# Altium footprint library 6U4dsp.PcbLib: 37 footprints (part 1 of 3)
Each footprint in its own frame and in the unit in brackets; x right, y up, seen from the top. Pads: shape width x height; smd on the part's side, far side on the other; paste and mask are expansions set on the pad; w line width, h text height; cw(c..) or ccw(c..) is an arc to the next point about the centre after c.
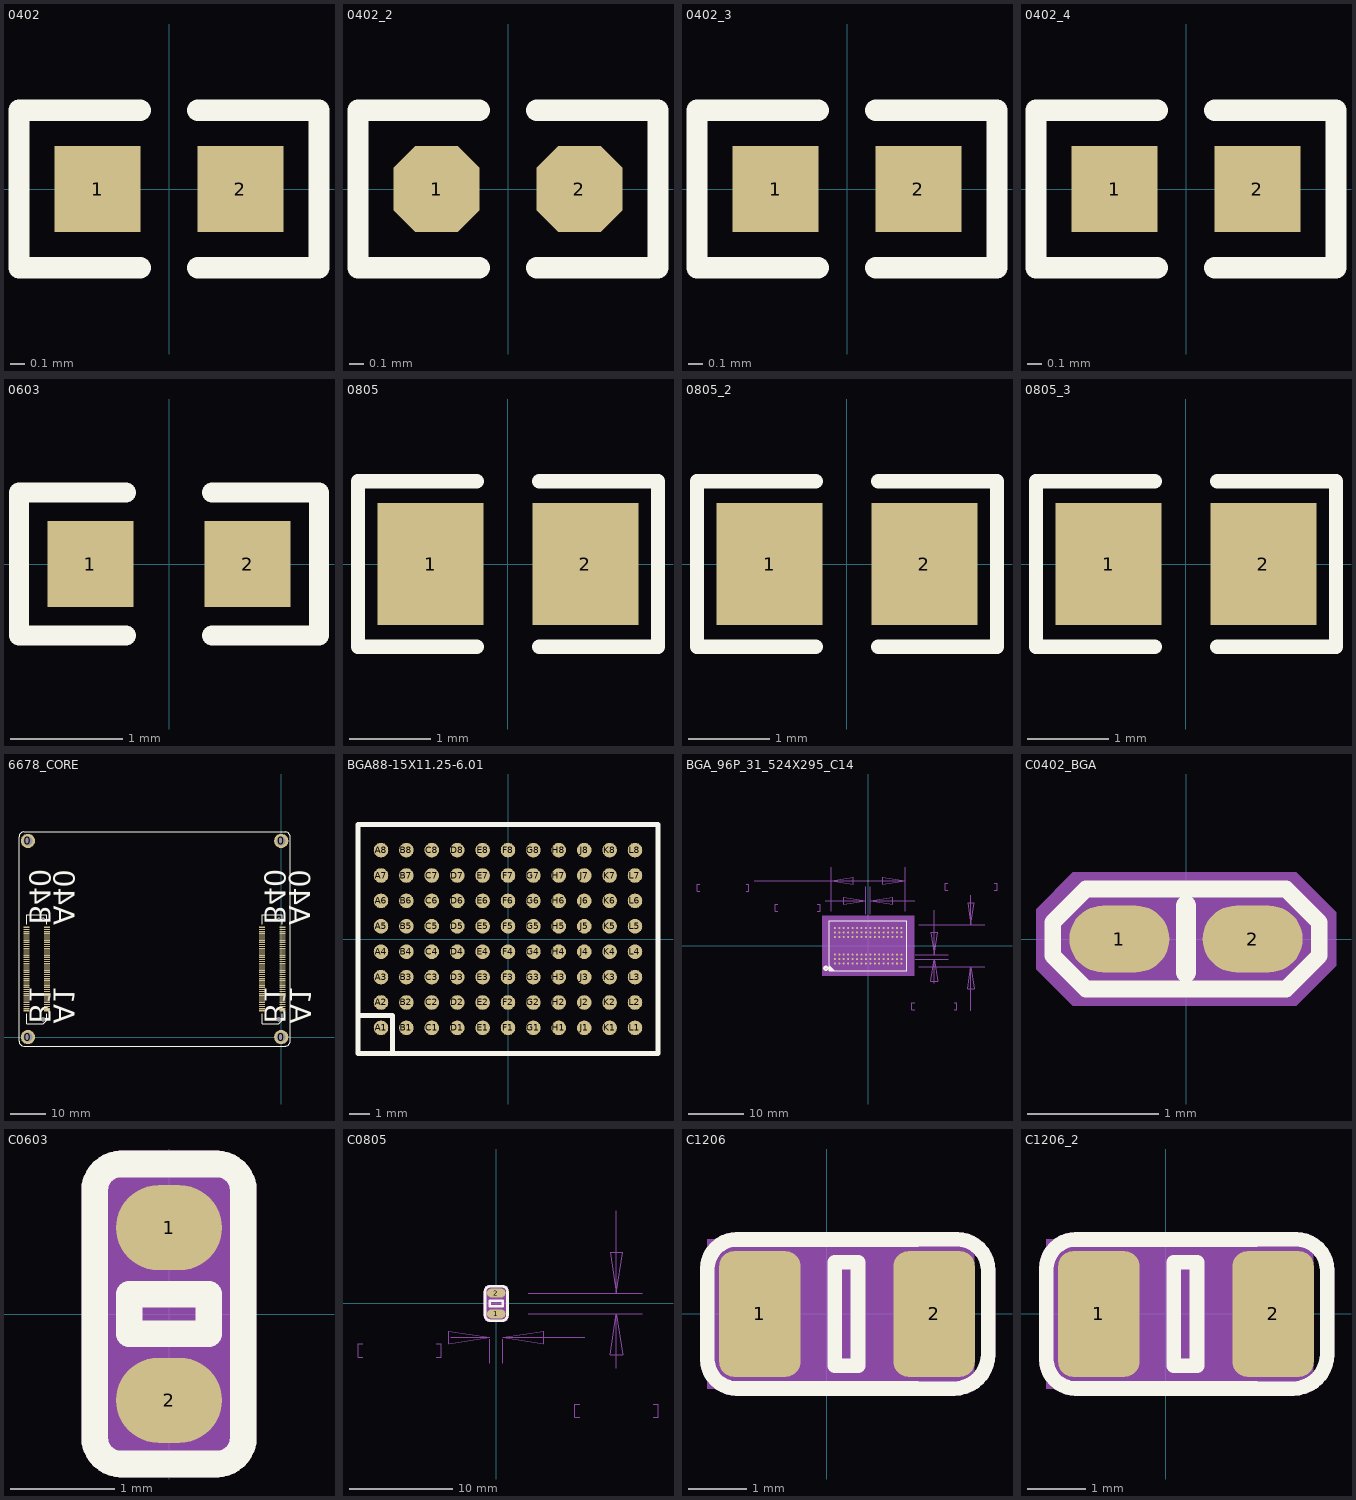
[diagram p0: the footprints below, top view; thin cyan lines are the x and y axes]

## 0402 [mm]
pads (2):
  rect 0.6x0.6 smd: 1(-0.5,0) 2(0.5,0)
Top Overlay:
  lines w0.15: -0.2,-0.55 -1.05,-0.55 -1.05,0.55 -0.2,0.55 ; 0.2,-0.55 1.05,-0.55 1.05,0.55 0.2,0.55

## 0402_2 [mm]
pads (2):
  oct 0.6x0.6 smd: 1(-0.5,0) 2(0.5,0)
Top Overlay:
  lines w0.15: -0.2,-0.55 -1.05,-0.55 -1.05,0.55 -0.2,0.55 ; 0.2,-0.55 1.05,-0.55 1.05,0.55 0.2,0.55

## 0402_3 [mm]
pads (2):
  rect 0.6x0.6 smd: 1(-0.5,0) 2(0.5,0)
Top Overlay:
  lines w0.15: -0.2,-0.55 -1.05,-0.55 -1.05,0.55 -0.2,0.55 ; 0.2,-0.55 1.05,-0.55 1.05,0.55 0.2,0.55

## 0402_4 [mm]
pads (2):
  rect 0.6x0.6 smd: 1(-0.5,0) 2(0.5,0)
Top Overlay:
  lines w0.15: -0.2,-0.55 -1.05,-0.55 -1.05,0.55 -0.2,0.55 ; 0.2,-0.55 1.05,-0.55 1.05,0.55 0.2,0.55

## 0603 [mil] "Chip Inductor, Body 0.6x0.3mm, IPC High Density"
height 21.65
pads (2):
  rect 30x30 smd: 1(-27.5,0) 2(27.5,0)
Top Overlay:
  lines w7: -15,-25 -52.5,-25 -52.5,25 -15,25 ; 15,-25 52.5,-25 52.5,25 15,25

## 0805 [mm]
pads (2):
  rect 1.3x1.5 smd: 1(-0.95,0) 2(0.95,0)
Top Overlay:
  lines w0.178: -0.381,-1.019 -1.841,-1.019 -1.841,1.019 -0.381,1.019 ; 0.381,-1.019 1.842,-1.019 1.842,1.019 0.381,1.019

## 0805_2 [mm]
pads (2):
  rect 1.3x1.5 smd: 1(-0.95,0) 2(0.95,0)
Top Overlay:
  lines w0.178: -0.381,-1.019 -1.841,-1.019 -1.841,1.019 -0.381,1.019 ; 0.381,-1.019 1.842,-1.019 1.842,1.019 0.381,1.019

## 0805_3 [mm]
pads (2):
  rect 1.3x1.5 smd: 1(-0.95,0) 2(0.95,0)
Top Overlay:
  lines w0.178: -0.381,-1.019 -1.841,-1.019 -1.841,1.019 -0.381,1.019 ; 0.381,-1.019 1.842,-1.019 1.842,1.019 0.381,1.019

## 6678_CORE [mm]
pads (168):
  round 4 hole 2.5: 0(-71,55) 0(-71,0) 0(0,0) 0(0,55)
  rect 1.7x0.35 smd: A1_1(-65.65,7.365) A1_2(-65.65,7.965) A1_3(-65.65,8.565) A1_4(-65.65,9.165) A1_5(-65.65,9.765) A1_6(-65.65,10.365) A1_7(-65.65,10.965) A1_8(-65.65,11.565) A1_9(-65.65,12.165) A1_10(-65.65,12.765) A1_11(-65.65,13.365) A1_12(-65.65,13.965) A1_13(-65.65,14.565) A1_14(-65.65,15.165) A1_15(-65.65,15.765) A1_16(-65.65,16.365) A1_17(-65.65,16.965) A1_18(-65.65,17.565) A1_19(-65.65,18.165) A1_20(-65.65,18.765) A1_21(-65.65,19.365) A1_22(-65.65,19.965) A1_23(-65.65,20.565) A1_24(-65.65,21.165) A1_25(-65.65,21.765) A1_26(-65.65,22.365) A1_27(-65.65,22.965) A1_28(-65.65,23.565) A1_29(-65.65,24.165) A1_30(-65.65,24.765) A1_31(-65.65,25.365) A1_32(-65.65,25.965) A1_33(-65.65,26.565) A1_34(-65.65,27.165) A1_35(-65.65,27.765) A1_36(-65.65,28.365) A1_37(-65.65,28.965) A1_38(-65.65,29.565) A1_39(-65.65,30.165) A1_40(-65.65,30.765) A2_1(0.35,7.365) A2_2(0.35,7.965) A2_3(0.35,8.565) A2_4(0.35,9.165) A2_5(0.35,9.765) A2_6(0.35,10.365) A2_7(0.35,10.965) A2_8(0.35,11.565) A2_9(0.35,12.165) A2_10(0.35,12.765) A2_11(0.35,13.365) A2_12(0.35,13.965) A2_13(0.35,14.565) A2_14(0.35,15.165) A2_15(0.35,15.765) A2_16(0.35,16.365) A2_17(0.35,16.965) A2_18(0.35,17.565) A2_19(0.35,18.165) A2_20(0.35,18.765) A2_21(0.35,19.365) A2_22(0.35,19.965) A2_23(0.35,20.565) A2_24(0.35,21.165) A2_25(0.35,21.765) A2_26(0.35,22.365) A2_27(0.35,22.965) A2_28(0.35,23.565) A2_29(0.35,24.165) A2_30(0.35,24.765) A2_31(0.35,25.365) A2_32(0.35,25.965) A2_33(0.35,26.565) A2_34(0.35,27.165) A2_35(0.35,27.765) A2_36(0.35,28.365) A2_37(0.35,28.965) A2_38(0.35,29.565) A2_39(0.35,30.165) A2_40(0.35,30.765) B1_1(-71.35,7.365) B1_2(-71.35,7.965) B1_3(-71.35,8.565) B1_4(-71.35,9.165) B1_5(-71.35,9.765) B1_6(-71.35,10.365) B1_7(-71.35,10.965) B1_8(-71.35,11.565) B1_9(-71.35,12.165) B1_10(-71.35,12.765) B1_11(-71.35,13.365) B1_12(-71.35,13.965) B1_13(-71.35,14.565) B1_14(-71.35,15.165) B1_15(-71.35,15.765) B1_16(-71.35,16.365) B1_17(-71.35,16.965) B1_18(-71.35,17.565) B1_19(-71.35,18.165) B1_20(-71.35,18.765) B1_21(-71.35,19.365) B1_22(-71.35,19.965) B1_23(-71.35,20.565) B1_24(-71.35,21.165) B1_25(-71.35,21.765) B1_26(-71.35,22.365) B1_27(-71.35,22.965) B1_28(-71.35,23.565) B1_29(-71.35,24.165) B1_30(-71.35,24.765) B1_31(-71.35,25.365) B1_32(-71.35,25.965) B1_33(-71.35,26.565) B1_34(-71.35,27.165) B1_35(-71.35,27.765) B1_36(-71.35,28.365) B1_37(-71.35,28.965) B1_38(-71.35,29.565) B1_39(-71.35,30.165) B1_40(-71.35,30.765) B2_1(-5.35,7.365) B2_2(-5.35,7.965) B2_3(-5.35,8.565) B2_4(-5.35,9.165) B2_5(-5.35,9.765) B2_6(-5.35,10.365) B2_7(-5.35,10.965) B2_8(-5.35,11.565) B2_9(-5.35,12.165) B2_10(-5.35,12.765) B2_11(-5.35,13.365) B2_12(-5.35,13.965) B2_13(-5.35,14.565) B2_14(-5.35,15.165) B2_15(-5.35,15.765) B2_16(-5.35,16.365) B2_17(-5.35,16.965) B2_18(-5.35,17.565) B2_19(-5.35,18.165) B2_20(-5.35,18.765) B2_21(-5.35,19.365) B2_22(-5.35,19.965) B2_23(-5.35,20.565) B2_24(-5.35,21.165) B2_25(-5.35,21.765) B2_26(-5.35,22.365) B2_27(-5.35,22.965) B2_28(-5.35,23.565) B2_29(-5.35,24.165) B2_30(-5.35,24.765) B2_31(-5.35,25.365) B2_32(-5.35,25.965) B2_33(-5.35,26.565) B2_34(-5.35,27.165) B2_35(-5.35,27.765) B2_36(-5.35,28.365) B2_37(-5.35,28.965) B2_38(-5.35,29.565) B2_39(-5.35,30.165) B2_40(-5.35,30.765)
  round 1.1 hole 1.1: ZH-C1(-66.7,4.965) ZH-C1(-0.7,4.965)
  round 0.7 hole 0.7: ZH-C2(-66.7,33.165) ZH-C2(-0.7,33.165)
Top Overlay:
  lines w0.254: -71.3,6.565 -71.3,3.765 -66.7,3.765 -65.7,4.765 -65.7,6.565 ; -71.3,31.565 -71.3,34.365 -65.7,34.365 -65.7,31.565 ; -5.3,6.565 -5.3,3.765 -0.7,3.765 0.3,4.765 0.3,6.565 ; -5.3,31.565 -5.3,34.365 0.3,34.365 0.3,31.565 ; -73.5,-1.23 ccw(c-72.23,-1.23) -72.23,-2.5 1.23,-2.5 ccw(c1.23,-1.23) 2.5,-1.23 2.5,56.23 ccw(c1.23,56.23) 1.23,57.5 -72.23,57.5 ccw(c-72.23,56.23) -73.5,56.23 -73.5,55.521 -73.5,-1.23
  text "A1" at 0.6,3.765 h10
  text "B1" at -6.513,3.774 h10
  text "A40" at -65.682,31.393 h10
  text "B40" at -72.513,31.513 h10
  text "B1" at -72.513,3.774 h10
  text "A1" at -65.7,3.765 h10
  text "B40" at -6.513,31.513 h10
  text "A40" at 0.319,31.393 h10

## BGA88-15X11.25-6.01 [mm]
pads (88):
  round 0.73 smd: A1(-6.35,-4.445) A2(-6.35,-3.175) A3(-6.35,-1.905) A4(-6.35,-0.635) A5(-6.35,0.635) A6(-6.35,1.905) A7(-6.35,3.175) A8(-6.35,4.445) B1(-5.08,-4.445) B2(-5.08,-3.175) B3(-5.08,-1.905) B4(-5.08,-0.635) B5(-5.08,0.635) B6(-5.08,1.905) B7(-5.08,3.175) B8(-5.08,4.445) C1(-3.81,-4.445) C2(-3.81,-3.175) C3(-3.81,-1.905) C4(-3.81,-0.635) C5(-3.81,0.635) C6(-3.81,1.905) C7(-3.81,3.175) C8(-3.81,4.445) D1(-2.54,-4.445) D2(-2.54,-3.175) D3(-2.54,-1.905) D4(-2.54,-0.635) D5(-2.54,0.635) D6(-2.54,1.905) D7(-2.54,3.175) D8(-2.54,4.445) E1(-1.27,-4.445) E2(-1.27,-3.175) E3(-1.27,-1.905) E4(-1.27,-0.635) E5(-1.27,0.635) E6(-1.27,1.905) E7(-1.27,3.175) E8(-1.27,4.445) F1(0,-4.445) F2(0,-3.175) F3(0,-1.905) F4(0,-0.635) F5(0,0.635) F6(0,1.905) F7(0,3.175) F8(0,4.445) G1(1.27,-4.445) G2(1.27,-3.175) G3(1.27,-1.905) G4(1.27,-0.635) G5(1.27,0.635) G6(1.27,1.905) G7(1.27,3.175) G8(1.27,4.445) H1(2.54,-4.445) H2(2.54,-3.175) H3(2.54,-1.905) H4(2.54,-0.635) H5(2.54,0.635) H6(2.54,1.905) H7(2.54,3.175) H8(2.54,4.445) J1(3.81,-4.445) J2(3.81,-3.175) J3(3.81,-1.905) J4(3.81,-0.635) J5(3.81,0.635) J6(3.81,1.905) J7(3.81,3.175) J8(3.81,4.445) K1(5.08,-4.445) K2(5.08,-3.175) K3(5.08,-1.905) K4(5.08,-0.635) K5(5.08,0.635) K6(5.08,1.905) K7(5.08,3.175) K8(5.08,4.445) L1(6.35,-4.445) L2(6.35,-3.175) L3(6.35,-1.905) L4(6.35,-0.635) L5(6.35,0.635) L6(6.35,1.905) L7(6.35,3.175) L8(6.35,4.445)
Top Overlay:
  lines w0.254: -7.493,-3.835 -5.765,-3.835 -5.765,-5.715 ; -7.5,-5.715 -7.5,5.715 7.5,5.715 7.5,-5.715 -7.5,-5.715

## BGA_96P_31_524X295_C14 [mil] "BGA_96P_31_524X295_C14"
pads (96):
  round 14 smd: A1(-236.22,-125.98) A2(-236.22,-94.49) A3(-236.22,-62.99) A7(-236.22,62.99) A8(-236.22,94.49) A9(-236.22,125.98) B1(-204.72,-125.98) B2(-204.72,-94.49) B3(-204.72,-62.99) B7(-204.72,62.99) B8(-204.72,94.49) B9(-204.72,125.98) C1(-173.23,-125.98) C2(-173.23,-94.49) C3(-173.23,-62.99) C7(-173.23,62.99) C8(-173.23,94.49) C9(-173.23,125.98) D1(-141.73,-125.98) D2(-141.73,-94.49) D3(-141.73,-62.99) D7(-141.73,62.99) D8(-141.73,94.49) D9(-141.73,125.98) E1(-110.24,-125.98) E2(-110.24,-94.49) E3(-110.24,-62.99) E7(-110.24,62.99) E8(-110.24,94.49) E9(-110.24,125.98) F1(-78.74,-125.98) F2(-78.74,-94.49) F3(-78.74,-62.99) F7(-78.74,62.99) F8(-78.74,94.49) F9(-78.74,125.98) G1(-47.24,-125.98) G2(-47.24,-94.49) G3(-47.24,-62.99) G7(-47.24,62.99) G8(-47.24,94.49) G9(-47.24,125.98) H1(-15.75,-125.98) H2(-15.75,-94.49) H3(-15.75,-62.99) H7(-15.75,62.99) H8(-15.75,94.49) H9(-15.75,125.98) J1(15.75,-125.98) J2(15.75,-94.49) J3(15.75,-62.99) J7(15.75,62.99) J8(15.75,94.49) J9(15.75,125.98) K1(47.24,-125.98) K2(47.24,-94.49) K3(47.24,-62.99) K7(47.24,62.99) K8(47.24,94.49) K9(47.24,125.98) L1(78.74,-125.98) L2(78.74,-94.49) L3(78.74,-62.99) L7(78.74,62.99) L8(78.74,94.49) L9(78.74,125.98) M1(110.24,-125.98) M2(110.24,-94.49) M3(110.24,-62.99) M7(110.24,62.99) M8(110.24,94.49) M9(110.24,125.98) N1(141.73,-125.98) N2(141.73,-94.49) N3(141.73,-62.99) N7(141.73,62.99) N8(141.73,94.49) N9(141.73,125.98) P1(173.23,-125.98) P2(173.23,-94.49) P3(173.23,-62.99) P7(173.23,62.99) P8(173.23,94.49) P9(173.23,125.98) R1(204.72,-125.98) R2(204.72,-94.49) R3(204.72,-62.99) R7(204.72,62.99) R8(204.72,94.49) R9(204.72,125.98) T1(236.22,-125.98) T2(236.22,-94.49) T3(236.22,-62.99) T7(236.22,62.99) T8(236.22,94.49) T9(236.22,125.98)
Top Overlay:
  circle w15: c-300,-160 r11.18
  lines w3.94: -275.98,-142.52 -275.2,-142.52 -241.73,-175.98 -248.82,-175.98 -275.2,-149.61 -275.2,-156.3 -255.12,-176.38 -261.42,-176.38 -274.41,-163.39 -274.41,-170.08 -268.11,-176.38 ; -275.59,-177.16 -275.59,177.16 275.59,177.16 275.59,-177.16 -275.59,-177.16
Mechanical 5:
  circle w15: c-300,-160 r11.18
  lines w3.94: -275.98,-142.52 -275.2,-142.52 -241.73,-175.98 -248.82,-175.98 -275.2,-149.61 -275.2,-156.3 -255.12,-176.38 -261.42,-176.38 -274.41,-163.39 -274.41,-170.08 -268.11,-176.38 ; -275.59,-177.16 -275.59,177.16 275.59,177.16 275.59,-177.16 -275.59,-177.16
  text "U4" at -362.51,27.5 h25
Mechanical 13:
  lines w1: -1195.67,385.04 -1214.57,385.04 -1214.57,435.04 -1195.67,435.04 ; -864.57,385.04 -845.67,385.04 -845.67,435.04 -864.57,435.04 ; -807.87,459.84 -261.81,459.84 ; -640.16,244.88 -659.06,244.88 -659.06,294.88 -640.16,294.88 ; -359.84,244.88 -340.94,244.88 -340.94,294.88 -359.84,294.88 ; -303.54,320.08 -15.75,320.08 ; -261.81,246.06 -261.81,558.27 ; -15.75,224.41 -15.75,418.5 ; 15.75,224.41 15.75,418.5 ; 261.81,246.06 261.81,558.27 ; 329.92,-455.12 311.02,-455.12 311.02,-405.12 329.92,-405.12 ; 330.71,320.08 15.75,320.08 ; 334.65,-94.49 568.5,-94.49 ; 334.65,-62.99 568.5,-62.99 ; 360.24,-147.64 828.35,-147.64 ; 360.24,147.64 828.35,147.64 ; 470.08,-267.32 470.08,-94.49 ; 470.08,251.97 470.08,-62.99 ; 564.57,394.88 545.67,394.88 545.67,444.88 564.57,444.88 ; 609.84,-455.12 629.13,-455.12 629.13,-405.12 609.84,-405.12 ; 729.92,-462.6 729.92,-147.64 ; 729.92,357.48 729.92,147.64 ; 895.67,394.88 914.57,394.88 914.57,444.88 895.67,444.88 ; -261.81,459.84 261.81,459.84 ; -261.81,459.84 -104.33,435.43 -104.33,484.65 -261.81,459.84 ; -15.75,320.08 -173.23,344.49 -173.23,295.28 -15.75,320.08 ; 15.75,320.08 173.23,295.28 173.23,344.49 15.75,320.08 ; 261.81,459.84 104.33,484.65 104.33,435.43 261.81,459.84 ; 470.08,-94.49 445.28,-251.97 494.49,-251.97 470.08,-94.49 ; 470.08,-62.99 494.49,94.49 445.28,94.49 470.08,-62.99 ; 729.92,-147.64 705.51,-305.12 754.72,-305.12 729.92,-147.64 ; 729.92,147.64 754.72,305.12 705.51,305.12 729.92,147.64
  text "295.28" at 583.46,394.88 h50
  text "7.5" at 659.84,494.88 h50
  text "523.62" at -1176.38,385.04 h50
  text "13.3" at -1125.59,485.04 h50
  text "31.50" at 348.82,-455.12 h50
  text "0.8" at 400,-355.12 h50
  text "31.50" at -620.87,244.88 h50
  text "0.8" at -570.08,344.88 h50
Mechanical 14:
  text "T9" at 236.22,146.14 h25.2
  text "P9" at 173.23,146.14 h25.2
  text "M9" at 110.24,146.14 h25.2
  text "J8" at 15.75,114.65 h25.2
  text "T1" at 236.22,-105.82 h25.2
  text "P1" at 173.23,-105.82 h25.2
  text "M1" at 110.24,-105.82 h25.2
  text "J2" at 15.75,-74.33 h25.2
  text "A9" at -236.22,146.14 h25.2
  text "B9" at -204.72,146.14 h25.2
  text "B3" at -204.72,-42.83 h25.2
  text "G8" at -47.24,114.65 h25.2
  text "G9" at -47.24,146.14 h25.2
  text "F9" at -78.74,146.14 h25.2
  text "E8" at -110.24,114.65 h25.2
  text "D8" at -141.73,114.65 h25.2
  text "G1" at -47.24,-105.82 h25.2
  text "E1" at -110.24,-105.82 h25.2
  text "E2" at -110.24,-74.33 h25.2
  text "D1" at -141.73,-105.82 h25.2
  text "B1" at -204.72,-105.82 h25.2
  text "L9" at 78.74,146.14 h25.2
  text "L1" at 78.74,-105.82 h25.2
  text "J9" at 15.75,146.14 h25.2
  text "J1" at 15.75,-105.82 h25.2
  text "B7" at -204.72,83.15 h25.2
  text "F3" at -78.74,-42.83 h25.2
  text "P8" at 173.23,114.65 h25.2
  text "H3" at -15.75,-42.83 h25.2
  text "P2" at 173.23,-74.33 h25.2
  text "E3" at -110.24,-42.83 h25.2
  text "A3" at -236.22,-42.83 h25.2
  text "A7" at -236.22,83.15 h25.2
  text "F8" at -78.74,114.65 h25.2
  text "R3" at 204.72,-42.83 h25.2
  text "N7" at 141.73,83.15 h25.2
  text "F7" at -78.74,83.15 h25.2
  text "M7" at 110.24,83.15 h25.2
  text "C3" at -173.23,-42.83 h25.2
  text "D7" at -141.73,83.15 h25.2
  text "T8" at 236.22,114.65 h25.2
  text "P7" at 173.23,83.15 h25.2
  text "T3" at 236.22,-42.83 h25.2
  text "C2" at -173.23,-74.33 h25.2
  text "N2" at 141.73,-74.33 h25.2
  text "G2" at -47.24,-74.33 h25.2
  text "A2" at -236.22,-74.33 h25.2
  text "H7" at -15.75,83.15 h25.2
  text "R8" at 204.72,114.65 h25.2
  text "N3" at 141.73,-42.83 h25.2
  text "F2" at -78.74,-74.33 h25.2
  text "C8" at -173.23,114.65 h25.2
  text "P3" at 173.23,-42.83 h25.2
  text "T2" at 236.22,-74.33 h25.2
  text "B8" at -204.72,114.65 h25.2
  text "H8" at -15.75,114.65 h25.2
  text "L7" at 78.74,83.15 h25.2
  text "R7" at 204.72,83.15 h25.2
  text "R2" at 204.72,-74.33 h25.2
  text "T7" at 236.22,83.15 h25.2
  text "K1" at 47.24,-105.82 h25.2
  text "G3" at -47.24,-42.83 h25.2
  text "C7" at -173.23,83.15 h25.2
  text "L8" at 78.74,114.65 h25.2
  text "N8" at 141.73,114.65 h25.2
  text "L2" at 78.74,-74.33 h25.2
  text "M3" at 110.24,-42.83 h25.2
  text "L3" at 78.74,-42.83 h25.2
  text "J3" at 15.75,-42.83 h25.2
  text "K7" at 47.24,83.15 h25.2
  text "J7" at 15.75,83.15 h25.2
  text "K3" at 47.24,-42.83 h25.2
  text "K9" at 47.24,146.14 h25.2
  text "M2" at 110.24,-74.33 h25.2
  text "E7" at -110.24,83.15 h25.2
  text "D3" at -141.73,-42.83 h25.2
  text "M8" at 110.24,114.65 h25.2
  text "H1" at -15.75,-105.82 h25.2
  text "N9" at 141.73,146.14 h25.2
  text "N1" at 141.73,-105.82 h25.2
  text "K2" at 47.24,-74.33 h25.2
  text "H9" at -15.75,146.14 h25.2
  text "G7" at -47.24,83.15 h25.2
  text "A8" at -236.22,114.65 h25.2
  text "C9" at -173.23,146.14 h25.2
  text "D9" at -141.73,146.14 h25.2
  text "E9" at -110.24,146.14 h25.2
  text "K8" at 47.24,114.65 h25.2
  text "H2" at -15.75,-74.33 h25.2
  text "C1" at -173.23,-105.82 h25.2
  text "B2" at -204.72,-74.33 h25.2
  text "A1" at -236.22,-105.82 h25.2
  text "D2" at -141.73,-74.33 h25.2
  text "F1" at -78.74,-105.82 h25.2
  text "R9" at 204.72,146.14 h25.2
  text "R1" at 204.72,-105.82 h25.2
Mechanical 16:
  region: -285,-185 285,-185 285,185 -285,185
  pour cut-out: -325.98,-211.81 325.98,-211.81 325.98,211.81 -325.98,211.81
3D body: height 150, standoff 0, extent -285,-185 285,185

## C0402_BGA [mil] "C0402_BGA"
pads (2):
  oval 30x20 smd: 1(-20,0) 2(20,0)
Top Overlay:
  lines w5: -40,-5 -40,5 -30,15 30,15 40,5 40,-5 30,-15 -30,-15 -40,-5
  lines w6: 0,-10 0,10
Mechanical 5:
  lines w5: -37.5,-7.51 -40,-5 -40,5 -37.5,7.51 ; -32.5,-12.49 -30,-15 30,-15 32.5,-12.49 ; -32.5,12.49 -30,15 30,15 32.5,12.49 ; 37.5,-7.51 40,-5 40,5 37.5,7.51
  lines w6: 0,-10 0,10
Mechanical 14:
  text "2" at 20,-10 h25
  text "1" at -20,-10 h25
Mechanical 16:
  region: 29,-12 36,-5 36,12 -29,12 -37,4 -37,-4 -29,-12
  pour cut-out: -34,-20 33,-20 45,-8 45,8 33,20 -34,20 -45,9 -45,-9
  lines w1: -20,-10 -20,10 20,10 20,-10 -20,-10
  lines w5: -40,-5 -40,5 -30,15 30,15 40,5 40,-5 30,-15 -30,-15 -40,-5
  lines w6: 0,-10 0,10
3D body: height 150, standoff 0, extent -37,-12 36,12

## C0603 [mil] "C0603"
pads (2):
  oval 40x32 smd: 1(0,32.5) 2(0,-32.5)
Top Overlay:
  lines w10: -28,-46.5 ccw(c-18,-46.5) -18,-56.5 18,-56.5 ccw(c18,-46.5) 28,-46.5 28,46.5 ccw(c18,46.5) 18,56.5 -18,56.5 ccw(c-18,46.5) -28,46.5 -28,-46.5 ; -15,-7.5 15,-7.5 15,7.5 -15,7.5 -15,-7.5
Mechanical 5:
  lines w10: -28,-46.5 ccw(c-18,-46.5) -18,-56.5 18,-56.5 ccw(c18,-46.5) 28,-46.5 28,46.5 ccw(c18,46.5) 18,56.5 -18,56.5 ccw(c-18,46.5) -28,46.5 -28,-46.5 ; -15,-7.5 -15,7.5 15,7.5 15,-7.5 -15,-7.5
  text "C1779" at -22.45,112.34 h25
Mechanical 14:
  text "2" at 0,-21.3 h28
  text "1" at 0,43.7 h28
Mechanical 16:
  region: -17.13,-33.46 17.13,-33.46 17.13,33.46 -17.13,33.46
  pour cut-out: 28,56.5 28,-56.5 -28,-56.5 -28,56.5
  lines w1: -17.13,-33.46 17.13,-33.46 17.13,33.46 -17.13,33.46 -17.13,-33.46
Mechanical 17:
  text ".Designator" at 0,60 h36
3D body: height 150, standoff 0, extent -17.13,-33.46 17.13,33.46

## C0805 [mil] "C0805"
pads (2):
  oval 70x35 smd: 1(0,-40) 2(0,40)
Top Overlay:
  lines w10: -43,-45.5 ccw(c-23,-45.5) -23,-65.5 23,-65.5 ccw(c23,-45.5) 43,-45.5 43,45.5 ccw(c23,45.5) 23,65.5 -23,65.5 ccw(c-23,45.5) -43,45.5 -43,-45.5 ; -25,-10 -25,10 25,10 25,-10 -25,-10
Mechanical 5:
  lines w10: -39.99,-56.04 cw(c-23,-45.49) -43,-45.5 -43,45.5 cw(c-23,45.49) -39.99,56.04 ; -33.54,-62.49 ccw(c-22.99,-45.5) -23,-65.5 23,-65.5 ccw(c22.99,-45.5) 33.54,-62.49 ; -33.54,62.49 cw(c-22.99,45.5) -23,65.5 23,65.5 cw(c22.99,45.5) 33.54,62.49 ; 39.99,-56.04 ccw(c23,-45.49) 43,-45.5 43,45.5 ccw(c23,45.49) 39.99,56.04 ; -25,-10 25,-10 25,10 -25,10 -25,-10
  text "C2647" at -66.75,-31.25 h25
Mechanical 13:
  lines w1: -510,-205 -529,-205 -529,-155 -510,-155 ; -230,-205 -211,-205 -211,-155 -230,-155 ; -173.5,-130 -24.61,-130 ; -24.61,-228.43 -24.61,-137.8 ; 24.61,-228.43 24.61,-137.8 ; 123.04,-39.37 558.43,-39.37 ; 123.04,39.37 558.43,39.37 ; 320,-435 301,-435 301,-385 320,-385 ; 339.57,-130 24.61,-130 ; 460,-247.5 460,-39.37 ; 460,354.33 460,39.37 ; 600,-435 619,-435 619,-385 600,-385 ; -24.61,-130 -182.09,-154.6 -182.09,-105.4 -24.61,-130 ; 24.61,-130 182.09,-105.4 182.09,-154.6 24.61,-130 ; 460,-39.37 484.6,-196.85 435.4,-196.85 460,-39.37 ; 460,39.37 435.4,196.85 484.6,196.85 460,39.37
  text "1.25" at -465.5,-105 h36
  text "49.22" at -491,-205 h36
  text "2" at 441,-335 h36
  text "78.74" at 339,-435 h36
Mechanical 14:
  text "2" at 0,28.8 h28
  text "1" at 0,-51.2 h28
Mechanical 16:
  pour cut-out: -43,-65.5 43,-65.5 43,65.5 -43,65.5
  region: -24.61,-39.37 24.61,-39.37 24.61,39.37 -24.61,39.37
  lines w1: -24.61,-39.37 -24.61,39.37 24.61,39.37 24.61,-39.37 -24.61,-39.37
3D body: height 150, standoff 0, extent -24.61,-39.37 24.61,39.37

## C1206 [mil] "C1206"
pads (2):
  rrect36% 55x85 smd: 1(-45.28,0) 2(72.84,0)
Top Overlay:
  lines w9.84: 60.78,-50.5 86.19,-50.5 ccw(c86.19,-27.4) 109.29,-27.4 109.29,29.55 ccw(c88.34,29.55) 88.34,50.5 60.78,50.5
  lines w10: 60.78,-50.5 -60.78,-50.5 cw(c-60.78,-30.5) -80.78,-30.5 -80.78,30.5 cw(c-60.78,30.5) -60.78,50.5 60.78,50.5 ; 5.44,-35 21.18,-35 21.18,35 5.44,35 5.44,-35
Mechanical 5:
  lines w9.84: 60.78,-50.5 86.19,-50.5 ccw(c86.2,-27.4) 97.72,-47.42 ; 60.78,50.5 88.34,50.5 cw(c88.34,29.55) 99.28,47.42 ; 105.26,-40.45 ccw(c86.19,-27.41) 109.29,-27.4 109.29,29.55 ccw(c88.34,29.55) 105.26,41.91
  lines w10: -77.78,-41.04 cw(c-60.78,-30.5) -80.78,-30.5 -80.78,30.5 cw(c-60.78,30.5) -77.78,41.04 ; -71.32,-47.5 ccw(c-60.78,-30.5) -60.78,-50.5 60.78,-50.5 ; -71.32,47.5 cw(c-60.78,30.5) -60.78,50.5 60.78,50.5 ; 5.44,-35 5.44,35 21.18,35 21.18,-35 5.44,-35
Mechanical 14:
  text "1" at -55.28,0 h25
  text "2" at 62.84,0 h25
Mechanical 16:
  pour cut-out: -80.78,-50.5 100,-50.5 100,50.5 -80.78,50.5
  lines w1: -62.99,-31.5 62.99,-31.5 ; -62.99,-31.5 -62.99,31.5 ; -62.99,-31.5 62.99,-31.5 ; -62.99,-31.5 -62.99,31.5 ; -62.99,31.5 62.99,31.5 ; -62.99,31.5 62.99,31.5 ; 62.99,-31.5 62.99,31.5 ; 62.99,-31.5 62.99,31.5

## C1206_2 [mil]
pads (2):
  rrect36% 55x85 smd: 1(-45.28,0) 2(72.84,0)
Top Overlay:
  lines w9.84: 60.78,-50.5 86.19,-50.5 ccw(c86.19,-27.4) 109.29,-27.4 109.29,29.55 ccw(c88.34,29.55) 88.34,50.5 60.78,50.5
  lines w10: 60.78,-50.5 -60.78,-50.5 cw(c-60.78,-30.5) -80.78,-30.5 -80.78,30.5 cw(c-60.78,30.5) -60.78,50.5 60.78,50.5 ; 5.44,-35 5.44,35 21.18,35 21.18,-35 5.44,-35
Mechanical 5:
  lines w9.84: 60.78,-50.5 86.19,-50.5 ccw(c86.2,-27.4) 97.72,-47.42 ; 60.78,50.5 88.34,50.5 cw(c88.34,29.55) 99.28,47.42 ; 105.26,-40.45 ccw(c86.19,-27.41) 109.29,-27.4 109.29,29.55 ccw(c88.34,29.55) 105.26,41.91
  lines w10: -77.78,-41.04 cw(c-60.78,-30.5) -80.78,-30.5 -80.78,30.5 cw(c-60.78,30.5) -77.78,41.04 ; -71.32,-47.5 ccw(c-60.78,-30.5) -60.78,-50.5 60.78,-50.5 ; -71.32,47.5 cw(c-60.78,30.5) -60.78,50.5 60.78,50.5 ; 5.44,-35 21.18,-35 21.18,35 5.44,35 5.44,-35
Mechanical 14:
  text "2" at 62.84,0 h25
  text "1" at -55.28,0 h25
Mechanical 16:
  pour cut-out: -80.78,-50.5 100,-50.5 100,50.5 -80.78,50.5
  lines w1: -62.99,-31.5 -62.99,31.5 ; -62.99,-31.5 62.99,-31.5 ; -62.99,-31.5 -62.99,31.5 ; -62.99,-31.5 62.99,-31.5 ; -62.99,31.5 62.99,31.5 ; -62.99,31.5 62.99,31.5 ; 62.99,-31.5 62.99,31.5 ; 62.99,-31.5 62.99,31.5